# EAGLE library part MAX3378EEUD (library thermo)
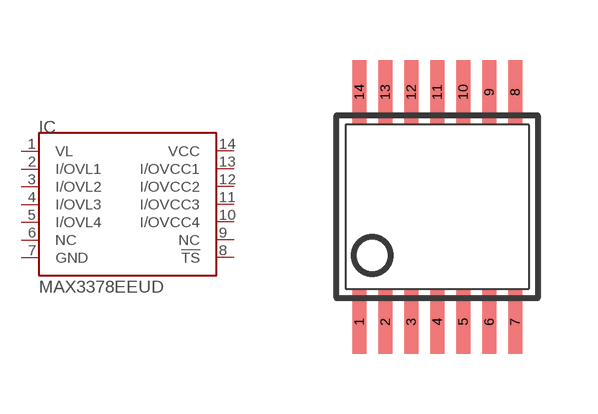
[diagram p8: symbol with the pads of TSSOP14; footprint TSSOP14]

Designator prefix IC

## MAX3378EEUD  [TSSOP14]
1  VL
2  I/OVL1
3  I/OVL2
4  I/OVL3
5  I/OVL4
6  NC  nc
7  GND
8  !TS!
9  NC  nc
10  I/OVCC4
11  I/OVCC3
12  I/OVCC2
13  I/OVCC1
14  VCC

## Footprint TSSOP14 (pad centres in mm)
Thin Shrink Small Outline Plastic 14 MAX3223-MAX3243.pdf
smd 0.35 x 1.6: 1 -1.95,-2.875; 2 -1.3,-2.875; 3 -0.65,-2.875; 4 0,-2.875; 5 0.65,-2.875; 6 1.3,-2.875; 7 1.95,-2.875; 8 1.95,2.875; 9 1.3,2.875; 10 0.65,2.875; 11 0,2.875; 12 -0.65,2.875; 13 -1.3,2.875; 14 -1.95,2.875